# EAGLE library part EC11B15242AE (library EC11B15242AE)
20mm Horizontal encoder 15 Pulses 30 DET Source: Datasheet <https://www.alps.com/prod/info/E/HTML/Encoder/Incremental/EC11/EC11B15242AE.html#Dimensions>
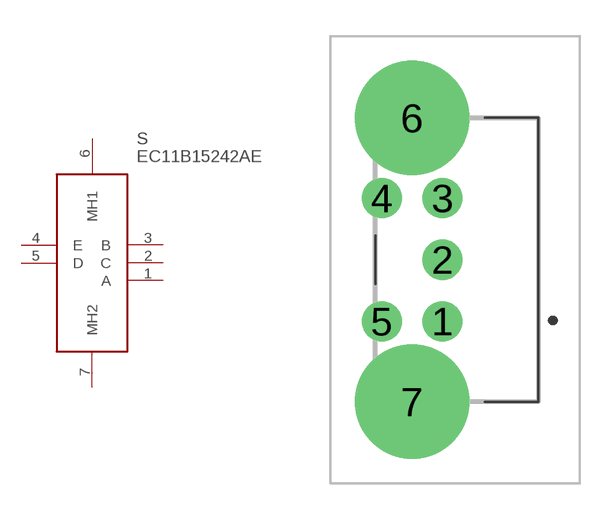
[diagram p0: symbol with the pads of EC11B15242AE; footprint EC11B15242AE]

Designator prefix S

## EC11B15242AE (Description: 20mm Horizontal encoder 15 Pulses 30 DET; Height: 13mm; Manufacturer_Name: ALPS; Manufacturer_Part_Number: EC11B15242AE; Mouser_Part_Number: 688-EC11B15242AE; Mouser_Price-Stock: http://www.mouser.com/Search/ProductDetail.aspx?qs=PoKhxlfUXjIm2pRMScFQOQ%3d%3d)  [EC11B15242AE]
1  A
2  C
3  B
4  E
5  D
6  MH1
7  MH2

## Footprint EC11B15242AE (pad centres in mm)
EC11B15242AE
drill 1.1 pad 1.65: 1 -0.95,-2.54; 2 -0.95,0; 3 -0.95,2.54; 4 -3.45,2.54; 5 -3.45,-2.54
drill 3.14 pad 4.71: 6 -2.2,5.85; 7 -2.2,-5.85